# EAGLE library part ADM1085 (library 25cmsquare)
Simple Sequencers® in 6-Lead SC70
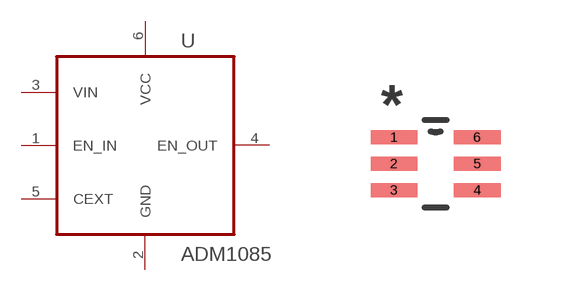
[diagram p12: symbol with the pads of SOT65P210X110-6N; footprint SOT65P210X110-6N]

Designator prefix U

## ADM1085 (MPN: ADM1085AKSZ-REEL7; OC_FARNELL: 1838906; OC_NEWARK: 59K1876; PACKAGE: SOT-23-6; SUPPLIER: Analog Devices)  [SOT65P210X110-6N]
1  EN_IN  in
2  GND  pas
3  VIN  in
4  EN_OUT  out
5  CEXT  in
6  VCC  pwr

## Footprint SOT65P210X110-6N (pad centres in mm)
smd 1.168 x 0.356: 1 -1.041,0.66; 2 -1.041,0; 3 -1.041,-0.66; 4 1.041,-0.66; 5 1.041,0; 6 1.041,0.66